# Altium schematic symbol library FB0805.SchLib: 3 symbols
Pins are listed as number, name and electrical type; pins without a type are passive.

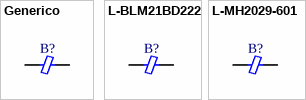
[diagram p0: symbols Generico to L-MH2029-601]

## Generico
designator B?
Manufacturer Part Number: *; Working Temperature: *; Temperature Coefficient: *; Mounting: *; Short Description: *; Power: *; Ratings: *; Type: *; Frequency: *; Alternate Part Number 1: *; Alternate Part Number 2: *; Manufacturer: *; Tolerance: *; Current: *; Revision Date: *; Package Reference: *; Voltage: *; Value: *
footprint FB0805 (Footprint not found)
pins: 1, 2

## L-BLM21BD222
designator B?
2.2 kOhms @ 100 MHz 1 Signal Line Ferrite Bead 0805 (2012 Metric) 200mA 600mOhm; Manufacturer Part Number: BLM21BD222TN1D; Manufacturer: Murata Electronics; Working Temperature: -55°C ~ 125°C; Temperature Coefficient: NC; Short Description: FERRITE BEAD 2.2 KOHM 0805 1LN; Ratings: ROHS3; Current: 220mA; Mounting: SMT; Power: NC; Type: Ferrite; Frequency: NC; Alternate Part Number 1: *; Alternate Part Number 2: *; Tolerance: NC; Revision Date: 02/08/21; Package Reference: 0805; Voltage: NC; Value: 2.2 kOhms @ 100 MHz
footprint FB0805 (Footprint not found)
pins: 1, 2

## L-MH2029-601
designator B?
600 Ohms @ 100 MHz 1 Power, Signal Line Ferrite Bead 0805 (2012 Metric) 1A 200mOhm; Manufacturer Part Number: MH2029-601Y; Manufacturer: Bourns Inc.; Working Temperature: -55°C ~ 125°C; Temperature Coefficient: NC; Short Description: FERRITE BEAD 600 OHM 0805 1LN; Ratings: REACH, ROHS3; Mounting: SMT; Power: NC; Type: Ferrite; Frequency: NC; Alternate Part Number 1: *; Alternate Part Number 2: *; Tolerance: NC; Current: 1A; Revision Date: 02/08/21; Package Reference: 0805; Voltage: NC; Value: 600 Ohms @ 100 MHz
footprint FB0805 (Footprint not found)
pins: 1, 2